# Altium schematic symbol library Connector-PH-2.0.SchLib: 1 symbol
Pins are listed as number, name and electrical type; pins without a type are passive.

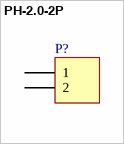
[diagram p0: symbol PH-2.0-2P]

## PH-2.0-2P
designator P?
Header, 2-Pin; LatestRevisionDate: 17-Jul-2002; LatestRevisionNote: Re-released for DXP Platform.; Publisher: Altium Limited
footprint PH-2.0_2P_A
footprint PH-2.0_2P_AW
pins: 1, 2